# Altium footprint library Package_CSP.PcbLib: 127 footprints (part 5 of 8)
Each footprint in its own frame and in the unit in brackets; x right, y up, seen from the top. Pads: shape width x height; smd on the part's side, far side on the other; paste and mask are expansions set on the pad; w line width, h text height; cw(c..) or ccw(c..) is an arc to the next point about the centre after c.
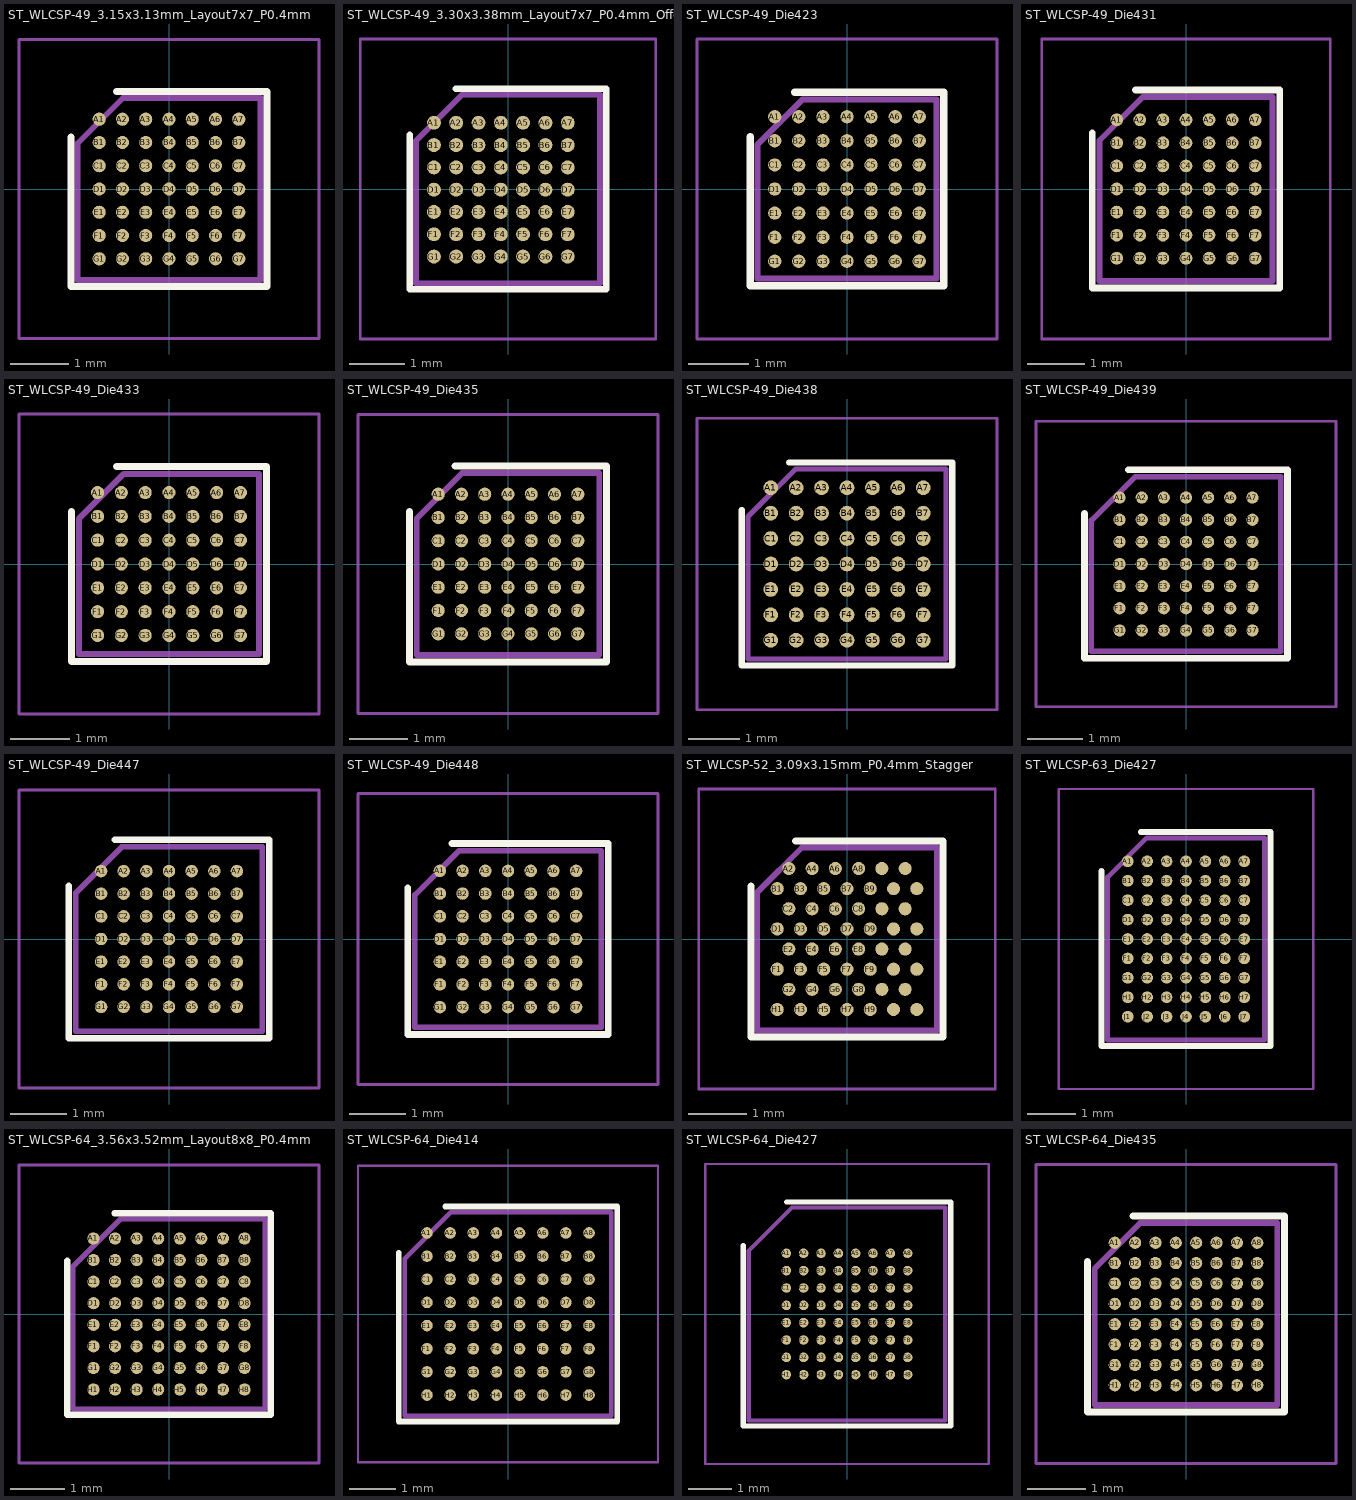
[diagram p4: the footprints below, top view; thin cyan lines are the x and y axes]

## ST_WLCSP-49_3.15x3.13mm_Layout7x7_P0.4mm [mm]
pads (49):
  round 0.225 smd: A1(-1.2,1.2) A2(-0.8,1.2) A3(-0.4,1.2) A4(0,1.2) A5(0.4,1.2) A6(0.8,1.2) A7(1.2,1.2) B1(-1.2,0.8) B2(-0.8,0.8) B3(-0.4,0.8) B4(0,0.8) B5(0.4,0.8) B6(0.8,0.8) B7(1.2,0.8) C1(-1.2,0.4) C2(-0.8,0.4) C3(-0.4,0.4) C4(0,0.4) C5(0.4,0.4) C6(0.8,0.4) C7(1.2,0.4) D1(-1.2,0) D2(-0.8,0) D3(-0.4,0) D4(0,0) D5(0.4,0) D6(0.8,0) D7(1.2,0) E1(-1.2,-0.4) E2(-0.8,-0.4) E3(-0.4,-0.4) E4(0,-0.4) E5(0.4,-0.4) E6(0.8,-0.4) E7(1.2,-0.4) F1(-1.2,-0.8) F2(-0.8,-0.8) F3(-0.4,-0.8) F4(0,-0.8) F5(0.4,-0.8) F6(0.8,-0.8) F7(1.2,-0.8) G1(-1.2,-1.2) G2(-0.8,-1.2) G3(-0.4,-1.2) G4(0,-1.2) G5(0.4,-1.2) G6(0.8,-1.2) G7(1.2,-1.2)
F.SilkS:
  lines w0.12: -1.685,0.893 -1.685,-1.675 1.685,-1.675 1.685,1.675 -0.903,1.675
F.CrtYd:
  lines w0.05: -2.58,-2.57 -2.58,2.57 2.58,2.57 2.58,-2.57 -2.58,-2.57
F.Fab:
  lines w0.1: -1.575,-1.565 1.575,-1.565 1.575,1.565 -0.793,1.565 -1.575,0.783 -1.575,-1.565
  text "'.Designator'" at -2.954,-0.613 h0.73

## ST_WLCSP-49_3.30x3.38mm_Layout7x7_P0.4mm_Offcenter [mm]
pads (49):
  round 0.25 smd: A1(-1.329,1.188) A2(-0.929,1.188) A3(-0.529,1.188) A4(-0.129,1.188) A5(0.271,1.188) A6(0.671,1.188) A7(1.071,1.188) B1(-1.329,0.788) B2(-0.929,0.788) B3(-0.529,0.788) B4(-0.129,0.788) B5(0.271,0.788) B6(0.671,0.788) B7(1.071,0.788) C1(-1.329,0.388) C2(-0.929,0.388) C3(-0.529,0.388) C4(-0.129,0.388) C5(0.271,0.388) C6(0.671,0.388) C7(1.071,0.388) D1(-1.329,-0.012) D2(-0.929,-0.012) D3(-0.529,-0.012) D4(-0.129,-0.012) D5(0.271,-0.012) D6(0.671,-0.012) D7(1.071,-0.012) E1(-1.329,-0.412) E2(-0.929,-0.412) E3(-0.529,-0.412) E4(-0.129,-0.412) E5(0.271,-0.412) E6(0.671,-0.412) E7(1.071,-0.412) F1(-1.329,-0.812) F2(-0.929,-0.812) F3(-0.529,-0.812) F4(-0.129,-0.812) F5(0.271,-0.812) F6(0.671,-0.812) F7(1.071,-0.812) G1(-1.329,-1.212) G2(-0.929,-1.212) G3(-0.529,-1.212) G4(-0.129,-1.212) G5(0.271,-1.212) G6(0.671,-1.212) G7(1.071,-1.212)
F.SilkS:
  lines w0.12: -1.76,0.975 -1.76,-1.8 1.76,-1.8 1.76,1.8 -0.935,1.8
F.CrtYd:
  lines w0.05: -2.65,-2.69 -2.65,2.69 2.65,2.69 2.65,-2.69 -2.65,-2.69
F.Fab:
  lines w0.1: -1.65,-1.69 1.65,-1.69 1.65,1.69 -0.825,1.69 -1.65,0.865 -1.65,-1.69
  text "'.Designator'" at -0.664,3.197 h0.79

## ST_WLCSP-49_Die423 [mm]
pads (49):
  round 0.22 smd: A1(-1.2,1.2) A2(-0.8,1.2) A3(-0.4,1.2) A4(0,1.2) A5(0.4,1.2) A6(0.8,1.2) A7(1.2,1.2) B1(-1.2,0.8) B2(-0.8,0.8) B3(-0.4,0.8) B4(0,0.8) B5(0.4,0.8) B6(0.8,0.8) B7(1.2,0.8) C1(-1.2,0.4) C2(-0.8,0.4) C3(-0.4,0.4) C4(0,0.4) C5(0.4,0.4) C6(0.8,0.4) C7(1.2,0.4) D1(-1.2,0) D2(-0.8,0) D3(-0.4,0) D4(0,0) D5(0.4,0) D6(0.8,0) D7(1.2,0) E1(-1.2,-0.4) E2(-0.8,-0.4) E3(-0.4,-0.4) E4(0,-0.4) E5(0.4,-0.4) E6(0.8,-0.4) E7(1.2,-0.4) F1(-1.2,-0.8) F2(-0.8,-0.8) F3(-0.4,-0.8) F4(0,-0.8) F5(0.4,-0.8) F6(0.8,-0.8) F7(1.2,-0.8) G1(-1.2,-1.2) G2(-0.8,-1.2) G3(-0.4,-1.2) G4(0,-1.2) G5(0.4,-1.2) G6(0.8,-1.2) G7(1.2,-1.2)
F.SilkS:
  lines w0.12: -1.607,0.866 -1.607,-1.607 1.607,-1.607 1.607,1.607 -0.866,1.607
F.CrtYd:
  lines w0.05: -2.49,-2.49 -2.49,2.49 2.49,2.49 2.49,-2.49 -2.49,-2.49
F.Fab:
  lines w0.1: -1.482,-1.482 1.482,-1.482 1.482,1.482 -0.741,1.482 -1.482,0.741 -1.482,-1.482
  text "'.Designator'" at -2.792,-0.58 h0.69

## ST_WLCSP-49_Die431 [mm]
pads (49):
  round 0.22 smd: A1(-1.2,1.2) A2(-0.8,1.2) A3(-0.4,1.2) A4(0,1.2) A5(0.4,1.2) A6(0.8,1.2) A7(1.2,1.2) B1(-1.2,0.8) B2(-0.8,0.8) B3(-0.4,0.8) B4(0,0.8) B5(0.4,0.8) B6(0.8,0.8) B7(1.2,0.8) C1(-1.2,0.4) C2(-0.8,0.4) C3(-0.4,0.4) C4(0,0.4) C5(0.4,0.4) C6(0.8,0.4) C7(1.2,0.4) D1(-1.2,0) D2(-0.8,0) D3(-0.4,0) D4(0,0) D5(0.4,0) D6(0.8,0) D7(1.2,0) E1(-1.2,-0.4) E2(-0.8,-0.4) E3(-0.4,-0.4) E4(0,-0.4) E5(0.4,-0.4) E6(0.8,-0.4) E7(1.2,-0.4) F1(-1.2,-0.8) F2(-0.8,-0.8) F3(-0.4,-0.8) F4(0,-0.8) F5(0.4,-0.8) F6(0.8,-0.8) F7(1.2,-0.8) G1(-1.2,-1.2) G2(-0.8,-1.2) G3(-0.4,-1.2) G4(0,-1.2) G5(0.4,-1.2) G6(0.8,-1.2) G7(1.2,-1.2)
F.SilkS:
  lines w0.12: -1.625,0.968 -1.625,-1.717 1.625,-1.717 1.625,1.717 -0.875,1.717
F.CrtYd:
  lines w0.05: -2.5,-2.6 2.5,-2.6 2.5,2.6 -2.5,2.6 -2.5,-2.6
F.Fab:
  lines w0.1: -1.499,-1.593 1.499,-1.593 1.499,1.593 -0.75,1.593 -1.499,0.843 -1.499,-1.593
  text "'.Designator'" at -2.833,-0.588 h0.7

## ST_WLCSP-49_Die433 [mm]
pads (49):
  round 0.22 smd: A1(-1.2,1.2) A2(-0.8,1.2) A3(-0.4,1.2) A4(0,1.2) A5(0.4,1.2) A6(0.8,1.2) A7(1.2,1.2) B1(-1.2,0.8) B2(-0.8,0.8) B3(-0.4,0.8) B4(0,0.8) B5(0.4,0.8) B6(0.8,0.8) B7(1.2,0.8) C1(-1.2,0.4) C2(-0.8,0.4) C3(-0.4,0.4) C4(0,0.4) C5(0.4,0.4) C6(0.8,0.4) C7(1.2,0.4) D1(-1.2,0) D2(-0.8,0) D3(-0.4,0) D4(0,0) D5(0.4,0) D6(0.8,0) D7(1.2,0) E1(-1.2,-0.4) E2(-0.8,-0.4) E3(-0.4,-0.4) E4(0,-0.4) E5(0.4,-0.4) E6(0.8,-0.4) E7(1.2,-0.4) F1(-1.2,-0.8) F2(-0.8,-0.8) F3(-0.4,-0.8) F4(0,-0.8) F5(0.4,-0.8) F6(0.8,-0.8) F7(1.2,-0.8) G1(-1.2,-1.2) G2(-0.8,-1.2) G3(-0.4,-1.2) G4(0,-1.2) G5(0.4,-1.2) G6(0.8,-1.2) G7(1.2,-1.2)
F.SilkS:
  lines w0.12: -1.639,0.882 -1.639,-1.639 1.639,-1.639 1.639,1.639 -0.882,1.639
F.CrtYd:
  lines w0.05: -2.52,-2.52 -2.52,2.52 2.52,2.52 2.52,-2.52 -2.52,-2.52
F.Fab:
  lines w0.1: -1.515,-1.515 -1.515,0.757 -0.757,1.515 1.515,1.515 1.515,-1.515 -1.515,-1.515
  text "'.Designator'" at -2.833,-0.588 h0.7

## ST_WLCSP-49_Die435 [mm]
pads (49):
  round 0.225 smd: A1(-1.2,1.2) A2(-0.8,1.2) A3(-0.4,1.2) A4(0,1.2) A5(0.4,1.2) A6(0.8,1.2) A7(1.2,1.2) B1(-1.2,0.8) B2(-0.8,0.8) B3(-0.4,0.8) B4(0,0.8) B5(0.4,0.8) B6(0.8,0.8) B7(1.2,0.8) C1(-1.2,0.4) C2(-0.8,0.4) C3(-0.4,0.4) C4(0,0.4) C5(0.4,0.4) C6(0.8,0.4) C7(1.2,0.4) D1(-1.2,0) D2(-0.8,0) D3(-0.4,0) D4(0,0) D5(0.4,0) D6(0.8,0) D7(1.2,0) E1(-1.2,-0.4) E2(-0.8,-0.4) E3(-0.4,-0.4) E4(0,-0.4) E5(0.4,-0.4) E6(0.8,-0.4) E7(1.2,-0.4) F1(-1.2,-0.8) F2(-0.8,-0.8) F3(-0.4,-0.8) F4(0,-0.8) F5(0.4,-0.8) F6(0.8,-0.8) F7(1.2,-0.8) G1(-1.2,-1.2) G2(-0.8,-1.2) G3(-0.4,-1.2) G4(0,-1.2) G5(0.4,-1.2) G6(0.8,-1.2) G7(1.2,-1.2)
F.SilkS:
  lines w0.12: -1.696,0.907 -1.696,-1.689 1.696,-1.689 1.696,1.689 -0.914,1.689
F.CrtYd:
  lines w0.05: -2.58,-2.57 -2.58,2.57 2.58,2.57 2.58,-2.57 -2.58,-2.57
F.Fab:
  lines w0.1: -1.57,-1.563 1.57,-1.563 1.57,1.563 -0.789,1.563 -1.57,0.782 -1.57,-1.563
  text "'.Designator'" at -2.954,-0.613 h0.73

## ST_WLCSP-49_Die438 [mm]
pads (49):
  round 0.29 smd: A1(-1.5,1.5) A2(-1,1.5) A3(-0.5,1.5) A4(0,1.5) A5(0.5,1.5) A6(1,1.5) A7(1.5,1.5) B1(-1.5,1) B2(-1,1) B3(-0.5,1) B4(0,1) B5(0.5,1) B6(1,1) B7(1.5,1) C1(-1.5,0.5) C2(-1,0.5) C3(-0.5,0.5) C4(0,0.5) C5(0.5,0.5) C6(1,0.5) C7(1.5,0.5) D1(-1.5,0) D2(-1,0) D3(-0.5,0) D4(0,0) D5(0.5,0) D6(1,0) D7(1.5,0) E1(-1.5,-0.5) E2(-1,-0.5) E3(-0.5,-0.5) E4(0,-0.5) E5(0.5,-0.5) E6(1,-0.5) E7(1.5,-0.5) F1(-1.5,-1) F2(-1,-1) F3(-0.5,-1) F4(0,-1) F5(0.5,-1) F6(1,-1) F7(1.5,-1) G1(-1.5,-1.5) G2(-1,-1.5) G3(-0.5,-1.5) G4(0,-1.5) G5(0.5,-1.5) G6(1,-1.5) G7(1.5,-1.5)
F.SilkS:
  lines w0.12: -2.07,1.06 -2.07,-1.995 2.07,-1.995 2.07,1.995 -1.135,1.995
F.CrtYd:
  lines w0.05: -2.95,-2.87 2.95,-2.87 2.95,2.87 -2.95,2.87 -2.95,-2.87
F.Fab:
  lines w0.1: -1.945,-1.87 -1.945,0.935 -1.01,1.87 1.945,1.87 1.945,-1.87 -1.945,-1.87
  text "'.Designator'" at -3.642,-0.756 h0.9

## ST_WLCSP-49_Die439 [mm]
pads (49):
  round 0.22 smd: A1(-1.2,1.2) A2(-0.8,1.2) A3(-0.4,1.2) A4(0,1.2) A5(0.4,1.2) A6(0.8,1.2) A7(1.2,1.2) B1(-1.2,0.8) B2(-0.8,0.8) B3(-0.4,0.8) B4(0,0.8) B5(0.4,0.8) B6(0.8,0.8) B7(1.2,0.8) C1(-1.2,0.4) C2(-0.8,0.4) C3(-0.4,0.4) C4(0,0.4) C5(0.4,0.4) C6(0.8,0.4) C7(1.2,0.4) D1(-1.2,0) D2(-0.8,0) D3(-0.4,0) D4(0,0) D5(0.4,0) D6(0.8,0) D7(1.2,0) E1(-1.2,-0.4) E2(-0.8,-0.4) E3(-0.4,-0.4) E4(0,-0.4) E5(0.4,-0.4) E6(0.8,-0.4) E7(1.2,-0.4) F1(-1.2,-0.8) F2(-0.8,-0.8) F3(-0.4,-0.8) F4(0,-0.8) F5(0.4,-0.8) F6(0.8,-0.8) F7(1.2,-0.8) G1(-1.2,-1.2) G2(-0.8,-1.2) G3(-0.4,-1.2) G4(0,-1.2) G5(0.4,-1.2) G6(0.8,-1.2) G7(1.2,-1.2)
F.SilkS:
  lines w0.12: -1.833,0.913 -1.833,-1.7 1.833,-1.7 1.833,1.7 -1.046,1.7
F.CrtYd:
  lines w0.05: -2.71,-2.58 -2.71,2.58 2.71,2.58 2.71,-2.58 -2.71,-2.58
F.Fab:
  lines w0.1: -1.709,-1.576 -1.709,0.788 -0.921,1.576 1.709,1.576 1.709,-1.576 -1.709,-1.576
  text "'.Designator'" at -3.197,-0.664 h0.79

## ST_WLCSP-49_Die447 [mm]
pads (49):
  round 0.22 smd: A1(-1.2,1.2) A2(-0.8,1.2) A3(-0.4,1.2) A4(0,1.2) A5(0.4,1.2) A6(0.8,1.2) A7(1.2,1.2) B1(-1.2,0.8) B2(-0.8,0.8) B3(-0.4,0.8) B4(0,0.8) B5(0.4,0.8) B6(0.8,0.8) B7(1.2,0.8) C1(-1.2,0.4) C2(-0.8,0.4) C3(-0.4,0.4) C4(0,0.4) C5(0.4,0.4) C6(0.8,0.4) C7(1.2,0.4) D1(-1.2,0) D2(-0.8,0) D3(-0.4,0) D4(0,0) D5(0.4,0) D6(0.8,0) D7(1.2,0) E1(-1.2,-0.4) E2(-0.8,-0.4) E3(-0.4,-0.4) E4(0,-0.4) E5(0.4,-0.4) E6(0.8,-0.4) E7(1.2,-0.4) F1(-1.2,-0.8) F2(-0.8,-0.8) F3(-0.4,-0.8) F4(0,-0.8) F5(0.4,-0.8) F6(0.8,-0.8) F7(1.2,-0.8) G1(-1.2,-1.2) G2(-0.8,-1.2) G3(-0.4,-1.2) G4(0,-1.2) G5(0.4,-1.2) G6(0.8,-1.2) G7(1.2,-1.2)
F.SilkS:
  lines w0.12: -1.772,0.94 -1.772,-1.754 1.772,-1.754 1.772,1.754 -0.958,1.754
F.CrtYd:
  lines w0.05: -2.65,-2.63 2.65,-2.63 2.65,2.63 -2.65,2.63 -2.65,-2.63
F.Fab:
  lines w0.1: -1.647,-1.629 1.647,-1.629 1.647,1.629 -0.833,1.629 -1.647,0.814 -1.647,-1.629
  text "'.Designator'" at -3.116,-0.647 h0.77

## ST_WLCSP-49_Die448 [mm]
pads (49):
  round 0.22 smd: A1(-1.2,1.2) A2(-0.8,1.2) A3(-0.4,1.2) A4(0,1.2) A5(0.4,1.2) A6(0.8,1.2) A7(1.2,1.2) B1(-1.2,0.8) B2(-0.8,0.8) B3(-0.4,0.8) B4(0,0.8) B5(0.4,0.8) B6(0.8,0.8) B7(1.2,0.8) C1(-1.2,0.4) C2(-0.8,0.4) C3(-0.4,0.4) C4(0,0.4) C5(0.4,0.4) C6(0.8,0.4) C7(1.2,0.4) D1(-1.2,0) D2(-0.8,0) D3(-0.4,0) D4(0,0) D5(0.4,0) D6(0.8,0) D7(1.2,0) E1(-1.2,-0.4) E2(-0.8,-0.4) E3(-0.4,-0.4) E4(0,-0.4) E5(0.4,-0.4) E6(0.8,-0.4) E7(1.2,-0.4) F1(-1.2,-0.8) F2(-0.8,-0.8) F3(-0.4,-0.8) F4(0,-0.8) F5(0.4,-0.8) F6(0.8,-0.8) F7(1.2,-0.8) G1(-1.2,-1.2) G2(-0.8,-1.2) G3(-0.4,-1.2) G4(0,-1.2) G5(0.4,-1.2) G6(0.8,-1.2) G7(1.2,-1.2)
F.SilkS:
  lines w0.12: -1.763,0.902 -1.763,-1.679 1.763,-1.679 1.763,1.679 -0.986,1.679
F.CrtYd:
  lines w0.05: -2.64,-2.56 -2.64,2.56 2.64,2.56 2.64,-2.56 -2.64,-2.56
F.Fab:
  lines w0.1: -1.639,-1.555 -1.639,0.777 -0.861,1.555 1.639,1.555 1.639,-1.555 -1.639,-1.555
  text "'.Designator'" at -3.076,-0.639 h0.76

## ST_WLCSP-52_3.09x3.15mm_P0.4mm_Stagger [mm]
pads (52):
  round 0.225 smd: A2(-1,1.212) A4(-0.6,1.212) A6(-0.2,1.212) A8(0.2,1.212) A10(0.6,1.212) A12(1,1.212) B1(-1.2,0.866) B3(-0.8,0.866) B5(-0.4,0.866) B7(0,0.866) B9(0.4,0.866) B11(0.8,0.866) B13(1.2,0.866) C2(-1,0.52) C4(-0.6,0.52) C6(-0.2,0.52) C8(0.2,0.52) C10(0.6,0.52) C12(1,0.52) D1(-1.2,0.173) D3(-0.8,0.173) D5(-0.4,0.173) D7(0,0.173) D9(0.4,0.173) D11(0.8,0.173) D13(1.2,0.173) E2(-1,-0.173) E4(-0.6,-0.173) E6(-0.2,-0.173) E8(0.2,-0.173) E10(0.6,-0.173) E12(1,-0.173) F1(-1.2,-0.52) F3(-0.8,-0.52) F5(-0.4,-0.52) F7(0,-0.52) F9(0.4,-0.52) F11(0.8,-0.52) F13(1.2,-0.52) G2(-1,-0.866) G4(-0.6,-0.866) G6(-0.2,-0.866) G8(0.2,-0.866) G10(0.6,-0.866) G12(1,-0.866) H1(-1.2,-1.212) H3(-0.8,-1.212) H5(-0.4,-1.212) H7(0,-1.212) H9(0.4,-1.212) H11(0.8,-1.212) H13(1.2,-1.212)
F.SilkS:
  lines w0.12: -1.655,0.913 -1.655,-1.685 1.655,-1.685 1.655,1.685 -0.883,1.685
F.CrtYd:
  lines w0.05: -2.55,-2.58 -2.55,2.58 2.55,2.58 2.55,-2.58 -2.55,-2.58
F.Fab:
  lines w0.1: -1.545,-1.575 1.545,-1.575 1.545,1.575 -0.773,1.575 -1.545,0.803 -1.545,-1.575
  text "'.Designator'" at -0.613,2.954 h0.73

## ST_WLCSP-63_Die427 [mm]
pads (63):
  round 0.24 smd: A1(-1.2,1.6) A2(-0.8,1.6) A3(-0.4,1.6) A4(0,1.6) A5(0.4,1.6) A6(0.8,1.6) A7(1.2,1.6) B1(-1.2,1.2) B2(-0.8,1.2) B3(-0.4,1.2) B4(0,1.2) B5(0.4,1.2) B6(0.8,1.2) B7(1.2,1.2) C1(-1.2,0.8) C2(-0.8,0.8) C3(-0.4,0.8) C4(0,0.8) C5(0.4,0.8) C6(0.8,0.8) C7(1.2,0.8) D1(-1.2,0.4) D2(-0.8,0.4) D3(-0.4,0.4) D4(0,0.4) D5(0.4,0.4) D6(0.8,0.4) D7(1.2,0.4) E1(-1.2,0) E2(-0.8,0) E3(-0.4,0) E4(0,0) E5(0.4,0) E6(0.8,0) E7(1.2,0) F1(-1.2,-0.4) F2(-0.8,-0.4) F3(-0.4,-0.4) F4(0,-0.4) F5(0.4,-0.4) F6(0.8,-0.4) F7(1.2,-0.4) G1(-1.2,-0.8) G2(-0.8,-0.8) G3(-0.4,-0.8) G4(0,-0.8) G5(0.4,-0.8) G6(0.8,-0.8) G7(1.2,-0.8) H1(-1.2,-1.2) H2(-0.8,-1.2) H3(-0.4,-1.2) H4(0,-1.2) H5(0.4,-1.2) H6(0.8,-1.2) H7(1.2,-1.2) J1(-1.2,-1.6) J2(-0.8,-1.6) J3(-0.4,-1.6) J4(0,-1.6) J5(0.4,-1.6) J6(0.8,-1.6) J7(1.2,-1.6)
F.SilkS:
  lines w0.12: -1.739,1.4 -1.739,-2.207 1.739,-2.207 1.739,2.207 -0.932,2.207
F.CrtYd:
  lines w0.05: -2.62,-3.09 2.62,-3.09 2.62,3.09 -2.62,3.09 -2.62,-3.09
F.Fab:
  lines w0.1: -1.614,-2.082 -1.614,1.275 -0.807,2.082 1.614,2.082 1.614,-2.082 -1.614,-2.082
  text "'.Designator'" at -3.035,-0.63 h0.75

## ST_WLCSP-64_3.56x3.52mm_Layout8x8_P0.4mm [mm]
pads (64):
  round 0.225 smd: A1(-1.4,1.4) A2(-1,1.4) A3(-0.6,1.4) A4(-0.2,1.4) A5(0.2,1.4) A6(0.6,1.4) A7(1,1.4) A8(1.4,1.4) B1(-1.4,1) B2(-1,1) B3(-0.6,1) B4(-0.2,1) B5(0.2,1) B6(0.6,1) B7(1,1) B8(1.4,1) C1(-1.4,0.6) C2(-1,0.6) C3(-0.6,0.6) C4(-0.2,0.6) C5(0.2,0.6) C6(0.6,0.6) C7(1,0.6) C8(1.4,0.6) D1(-1.4,0.2) D2(-1,0.2) D3(-0.6,0.2) D4(-0.2,0.2) D5(0.2,0.2) D6(0.6,0.2) D7(1,0.2) D8(1.4,0.2) E1(-1.4,-0.2) E2(-1,-0.2) E3(-0.6,-0.2) E4(-0.2,-0.2) E5(0.2,-0.2) E6(0.6,-0.2) E7(1,-0.2) E8(1.4,-0.2) F1(-1.4,-0.6) F2(-1,-0.6) F3(-0.6,-0.6) F4(-0.2,-0.6) F5(0.2,-0.6) F6(0.6,-0.6) F7(1,-0.6) F8(1.4,-0.6) G1(-1.4,-1) G2(-1,-1) G3(-0.6,-1) G4(-0.2,-1) G5(0.2,-1) G6(0.6,-1) G7(1,-1) G8(1.4,-1) H1(-1.4,-1.4) H2(-1,-1.4) H3(-0.6,-1.4) H4(-0.2,-1.4) H5(0.2,-1.4) H6(0.6,-1.4) H7(1,-1.4) H8(1.4,-1.4)
F.SilkS:
  lines w0.12: -1.89,0.99 -1.89,-1.87 1.89,-1.87 1.89,1.87 -1.01,1.87
F.CrtYd:
  lines w0.05: -2.78,-2.76 -2.78,2.76 2.78,2.76 2.78,-2.76 -2.78,-2.76
F.Fab:
  lines w0.1: -1.78,-1.76 1.78,-1.76 1.78,1.76 -0.9,1.76 -1.78,0.88 -1.78,-1.76
  text "'.Designator'" at -3.359,-0.697 h0.83

## ST_WLCSP-64_Die414 [mm]
pads (64):
  round 0.25 smd: A1(-1.75,1.75) A2(-1.25,1.75) A3(-0.75,1.75) A4(-0.25,1.75) A5(0.25,1.75) A6(0.75,1.75) A7(1.25,1.75) A8(1.75,1.75) B1(-1.75,1.25) B2(-1.25,1.25) B3(-0.75,1.25) B4(-0.25,1.25) B5(0.25,1.25) B6(0.75,1.25) B7(1.25,1.25) B8(1.75,1.25) C1(-1.75,0.75) C2(-1.25,0.75) C3(-0.75,0.75) C4(-0.25,0.75) C5(0.25,0.75) C6(0.75,0.75) C7(1.25,0.75) C8(1.75,0.75) D1(-1.75,0.25) D2(-1.25,0.25) D3(-0.75,0.25) D4(-0.25,0.25) D5(0.25,0.25) D6(0.75,0.25) D7(1.25,0.25) D8(1.75,0.25) E1(-1.75,-0.25) E2(-1.25,-0.25) E3(-0.75,-0.25) E4(-0.25,-0.25) E5(0.25,-0.25) E6(0.75,-0.25) E7(1.25,-0.25) E8(1.75,-0.25) F1(-1.75,-0.75) F2(-1.25,-0.75) F3(-0.75,-0.75) F4(-0.25,-0.75) F5(0.25,-0.75) F6(0.75,-0.75) F7(1.25,-0.75) F8(1.75,-0.75) G1(-1.75,-1.25) G2(-1.25,-1.25) G3(-0.75,-1.25) G4(-0.25,-1.25) G5(0.25,-1.25) G6(0.75,-1.25) G7(1.25,-1.25) G8(1.75,-1.25) H1(-1.75,-1.75) H2(-1.25,-1.75) H3(-0.75,-1.75) H4(-0.25,-1.75) H5(0.25,-1.75) H6(0.75,-1.75) H7(1.25,-1.75) H8(1.75,-1.75)
F.SilkS:
  lines w0.12: -2.358,1.322 -2.358,-2.322 2.358,-2.322 2.358,2.322 -1.358,2.322
F.CrtYd:
  lines w0.05: -3.24,-3.2 3.24,-3.2 3.24,3.2 -3.24,3.2 -3.24,-3.2
F.Fab:
  lines w0.1: -2.233,-2.197 -2.233,1.198 -1.233,2.197 2.233,2.197 2.233,-2.197 -2.233,-2.197
  text "'.Designator'" at -4.047,-0.84 h1

## ST_WLCSP-64_Die427 [mm]
pads (64):
  round 0.22 smd: A1(-1.4,1.4) A2(-1,1.4) A3(-0.6,1.4) A4(-0.2,1.4) A5(0.2,1.4) A6(0.6,1.4) A7(1,1.4) A8(1.4,1.4) B1(-1.4,1) B2(-1,1) B3(-0.6,1) B4(-0.2,1) B5(0.2,1) B6(0.6,1) B7(1,1) B8(1.4,1) C1(-1.4,0.6) C2(-1,0.6) C3(-0.6,0.6) C4(-0.2,0.6) C5(0.2,0.6) C6(0.6,0.6) C7(1,0.6) C8(1.4,0.6) D1(-1.4,0.2) D2(-1,0.2) D3(-0.6,0.2) D4(-0.2,0.2) D5(0.2,0.2) D6(0.6,0.2) D7(1,0.2) D8(1.4,0.2) E1(-1.4,-0.2) E2(-1,-0.2) E3(-0.6,-0.2) E4(-0.2,-0.2) E5(0.2,-0.2) E6(0.6,-0.2) E7(1,-0.2) E8(1.4,-0.2) F1(-1.4,-0.6) F2(-1,-0.6) F3(-0.6,-0.6) F4(-0.2,-0.6) F5(0.2,-0.6) F6(0.6,-0.6) F7(1,-0.6) F8(1.4,-0.6) G1(-1.4,-1) G2(-1,-1) G3(-0.6,-1) G4(-0.2,-1) G5(0.2,-1) G6(0.6,-1) G7(1,-1) G8(1.4,-1) H1(-1.4,-1.4) H2(-1,-1.4) H3(-0.6,-1.4) H4(-0.2,-1.4) H5(0.2,-1.4) H6(0.6,-1.4) H7(1,-1.4) H8(1.4,-1.4)
F.SilkS:
  lines w0.12: -2.395,1.58 -2.395,-2.581 2.395,-2.581 2.395,2.581 -1.395,2.581
F.CrtYd:
  lines w0.05: -3.27,-3.46 3.27,-3.46 3.27,3.46 -3.27,3.46 -3.27,-3.46
F.Fab:
  lines w0.1: -2.27,-2.455 2.27,-2.455 2.27,2.455 -1.269,2.455 -2.27,1.455 -2.27,-2.455
  text "'.Designator'" at -4.047,-0.84 h1

## ST_WLCSP-64_Die435 [mm]
pads (64):
  round 0.21 smd: A1(-1.225,1.225) A2(-0.875,1.225) A3(-0.525,1.225) A4(-0.175,1.225) A5(0.175,1.225) A6(0.525,1.225) A7(0.875,1.225) A8(1.225,1.225) B1(-1.225,0.875) B2(-0.875,0.875) B3(-0.525,0.875) B4(-0.175,0.875) B5(0.175,0.875) B6(0.525,0.875) B7(0.875,0.875) B8(1.225,0.875) C1(-1.225,0.525) C2(-0.875,0.525) C3(-0.525,0.525) C4(-0.175,0.525) C5(0.175,0.525) C6(0.525,0.525) C7(0.875,0.525) C8(1.225,0.525) D1(-1.225,0.175) D2(-0.875,0.175) D3(-0.525,0.175) D4(-0.175,0.175) D5(0.175,0.175) D6(0.525,0.175) D7(0.875,0.175) D8(1.225,0.175) E1(-1.225,-0.175) E2(-0.875,-0.175) E3(-0.525,-0.175) E4(-0.175,-0.175) E5(0.175,-0.175) E6(0.525,-0.175) E7(0.875,-0.175) E8(1.225,-0.175) F1(-1.225,-0.525) F2(-0.875,-0.525) F3(-0.525,-0.525) F4(-0.175,-0.525) F5(0.175,-0.525) F6(0.525,-0.525) F7(0.875,-0.525) F8(1.225,-0.525) G1(-1.225,-0.875) G2(-0.875,-0.875) G3(-0.525,-0.875) G4(-0.175,-0.875) G5(0.175,-0.875) G6(0.525,-0.875) G7(0.875,-0.875) G8(1.225,-0.875) H1(-1.225,-1.225) H2(-0.875,-1.225) H3(-0.525,-1.225) H4(-0.175,-1.225) H5(0.175,-1.225) H6(0.525,-1.225) H7(0.875,-1.225) H8(1.225,-1.225)
F.SilkS:
  lines w0.12: -1.696,0.907 -1.696,-1.689 1.696,-1.689 1.696,1.689 -0.914,1.689
F.CrtYd:
  lines w0.05: -2.58,-2.57 -2.58,2.57 2.58,2.57 2.58,-2.57 -2.58,-2.57
F.Fab:
  lines w0.1: -1.57,-1.563 1.57,-1.563 1.57,1.563 -0.789,1.563 -1.57,0.782 -1.57,-1.563
  text "'.Designator'" at -2.954,-0.613 h0.73